# Altium integrated library AMP CompactPCI Type C.IntLib: 4 symbols
Pins are listed as number, name and electrical type; pins without a type are passive.

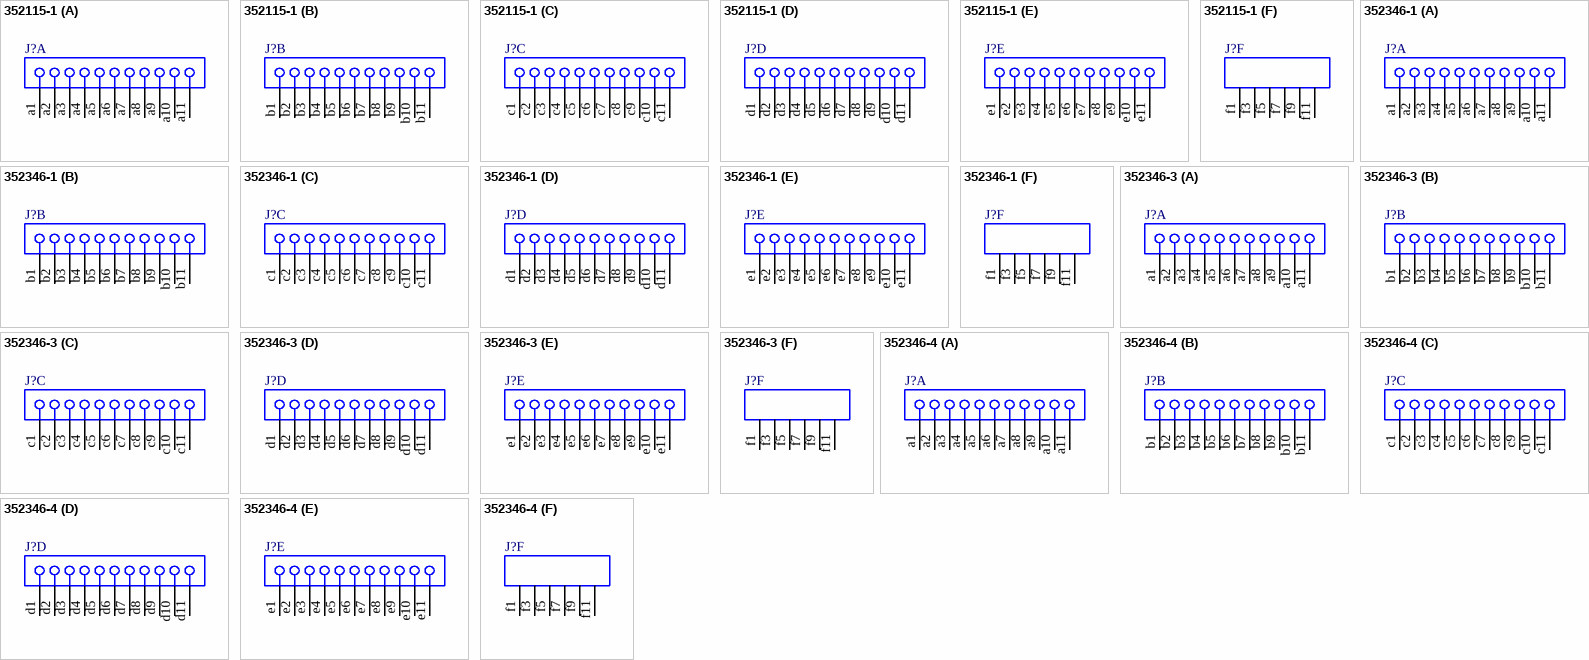
[diagram p0: symbols 352115-1 to 352346-4]

## 352115-1
designator J?
Z-Pack 2mm Hard Metric Type C 55 Position Female PCB Mount Connector; ContactMaterial: Phosphor Bronze; ContactPlating: Gold (30) over Nickel (50); Positions: 55; PCB_Layout: Complies with manufacturer's recommendation.; DrillSize: Corresponds to nominal value.; Published: 17-Jul-2002; LatestRevisionDate: 29-May-2009; LatestRevisionNote: Component Body Added.; DatasheetVersion: 12-Jul-2000; PackageVersion: 12-Jul-2000; PackageReference: 352115-1; Publisher: Altium Limited; Orientation: Right Angle; HousingMaterial: PBT - GF; ComponentLink1Description: Manufacturer Link; ComponentLink1URL: http://www.tycoelectronics.com/; ComponentLink2Description: Packaging Specification; ComponentLink2URL: http://ecommas.tycoelectronics.com/commerce/DocumentDelivery/DDEController?Action=showdoc&DocId=Customer+Drawing%7F352115%7FF%7Ftif%7FEnglish%7FENG_CD_352115_F.tif; ComponentLink3Description: Iges Model; ComponentLink3URL: http://catalog.tycoelectronics.com/TE/docs/cadgeo/1/40/34041.tar.gz
footprint 352115-1 (Connector; CompactPCI; 55 Position; Right Angle)
signal-integrity model CompactPCI
part A pins: a1, a2, a3, a4, a5, a6, a7, a8, a9, a10, a11
part B pins: b1, b2, b3, b4, b5, b6, b7, b8, b9, b10, b11
part C pins: c1, c2, c3, c4, c5, c6, c7, c8, c9, c10, c11
part D pins: d1, d2, d3, d4, d5, d6, d7, d8, d9, d10, d11
part E pins: e1, e2, e3, e4, e5, e6, e7, e8, e9, e10, e11
part F pins: f1, f3, f5, f7, f9, f11

## 352346-1
designator J?
Z-Pack 2mm Hard Metric Type C 55 Position Female PCB Mount Connector; ContactMaterial: Phosphor Bronze; ContactPlating: Gold (30) over Nickel (50); Positions: 55; PCB_Layout: Complies with manufacturer's recommendation.; DrillSize: Corresponds to nominal value.; Published: 17-Jul-2002; LatestRevisionDate: 29-May-2009; LatestRevisionNote: Component Body Added.; DatasheetVersion: 13-Jul-2000; PackageVersion: 13-Jul-2000; PackageReference: 352346-1; Publisher: Altium Limited; Orientation: Right Angle; HousingMaterial: Glass-Filled Polyester, UL 94V-0; ComponentLink1Description: Manufacturer Link; ComponentLink1URL: http://www.tycoelectronics.com/; ComponentLink2Description: Packaging Specification; ComponentLink2URL: http://ecommas.tycoelectronics.com/commerce/DocumentDelivery/DDEController?Action=showdoc&DocId=Customer+Drawing%7F352346%7FC%7Fpdf%7FEnglish%7FENG_CD_352346_C.pdf; ComponentLink3Description: Iges Model; ComponentLink3URL: http://catalog.tycoelectronics.com/TE/docs/cadgeo/8/21/37128.tar.gz
footprint 352346-1 (Connector; CompactPCI; 55 Position; Right Angle)
signal-integrity model CompactPCI
part A pins: a1, a2, a3, a4, a5, a6, a7, a8, a9, a10, a11
part B pins: b1, b2, b3, b4, b5, b6, b7, b8, b9, b10, b11
part C pins: c1, c2, c3, c4, c5, c6, c7, c8, c9, c10, c11
part D pins: d1, d2, d3, d4, d5, d6, d7, d8, d9, d10, d11
part E pins: e1, e2, e3, e4, e5, e6, e7, e8, e9, e10, e11
part F pins: f1, f3, f5, f7, f9, f11

## 352346-3
designator J?
Z-Pack 2mm Hard Metric Type C 55 Position Female PCB Mount Connector; ContactMaterial: Phosphor Bronze; ContactPlating: Gold (80) over Nickel; Positions: 55; PCB_Layout: Complies with manufacturer's recommendation.; DrillSize: Corresponds to nominal value.; ComponentAvailability: Obsolete; Published: 17-Jul-2002; LatestRevisionDate: 29-May-2009; LatestRevisionNote: Component Body Added.; DatasheetVersion: 13-Jul-2000; PackageVersion: 13-Jul-2000; PackageReference: 352346-3; Publisher: Altium Limited; Orientation: Right Angle; HousingMaterial: Glass-Filled Polyester, UL 94V-0; ComponentLink1Description: Manufacturer Link; ComponentLink1URL: http://www.tycoelectronics.com/; ComponentLink2Description: Packaging Specification; ComponentLink2URL: http://ecommas.tycoelectronics.com/commerce/DocumentDelivery/DDEController?Action=showdoc&DocId=Customer+Drawing%7F352346%7FC%7Fpdf%7FEnglish%7FENG_CD_352346_C.pdf; ComponentLink3Description: Iges Model; ComponentLink3URL: http://catalog.tycoelectronics.com/TE/docs/cadgeo/8/21/37128.tar.gz
footprint 352346-3 (Connector; CompactPCI; 55 Position; Right Angle)
signal-integrity model CompactPCI
part A pins: a1, a2, a3, a4, a5, a6, a7, a8, a9, a10, a11
part B pins: b1, b2, b3, b4, b5, b6, b7, b8, b9, b10, b11
part C pins: c1, c2, c3, c4, c5, c6, c7, c8, c9, c10, c11
part D pins: d1, d2, d3, d4, d5, d6, d7, d8, d9, d10, d11
part E pins: e1, e2, e3, e4, e5, e6, e7, e8, e9, e10, e11
part F pins: f1, f3, f5, f7, f9, f11

## 352346-4
designator J?
Z-Pack 2mm Hard Metric Type C 55 Position Female PCB Mount Connector; ContactMaterial: Phosphor Bronze; ContactPlating: Gold (50) over Nickel (50); Positions: 55; PCB_Layout: Complies with manufacturer's recommendation.; DrillSize: Corresponds to nominal value.; Published: 17-Jul-2002; LatestRevisionDate: 29-May-2009; LatestRevisionNote: Component Body Added.; DatasheetVersion: 13-Jul-2000; PackageVersion: 13-Jul-2000; PackageReference: 352346-4; Publisher: Altium Limited; Orientation: Right Angle; HousingMaterial: Glass-Filled Polyester, UL 94V-0; ComponentLink1Description: Manufacturer Link; ComponentLink1URL: http://www.tycoelectronics.com/; ComponentLink2Description: Packaging Specification; ComponentLink2URL: http://ecommas.tycoelectronics.com/commerce/DocumentDelivery/DDEController?Action=showdoc&DocId=Customer+Drawing%7F352346%7FC%7Fpdf%7FEnglish%7FENG_CD_352346_C.pdf; ComponentLink3Description: Iges Model; ComponentLink3URL: http://catalog.tycoelectronics.com/TE/docs/cadgeo/8/21/37128.tar.gz
footprint 352346-4 (Connector; CompactPCI; 55 Position; Right Angle)
signal-integrity model CompactPCI
part A pins: a1, a2, a3, a4, a5, a6, a7, a8, a9, a10, a11
part B pins: b1, b2, b3, b4, b5, b6, b7, b8, b9, b10, b11
part C pins: c1, c2, c3, c4, c5, c6, c7, c8, c9, c10, c11
part D pins: d1, d2, d3, d4, d5, d6, d7, d8, d9, d10, d11
part E pins: e1, e2, e3, e4, e5, e6, e7, e8, e9, e10, e11
part F pins: f1, f3, f5, f7, f9, f11